# Altium footprint library PCB - POWER INDUCTORS - WURTH WE-HCI 7030.PcbLib: 1 footprints
Each footprint in its own frame and in the unit in brackets; x right, y up, seen from the top. Pads: shape width x height; smd on the part's side, far side on the other; paste and mask are expansions set on the pad; w line width, h text height; cw(c..) or ccw(c..) is an arc to the next point about the centre after c.
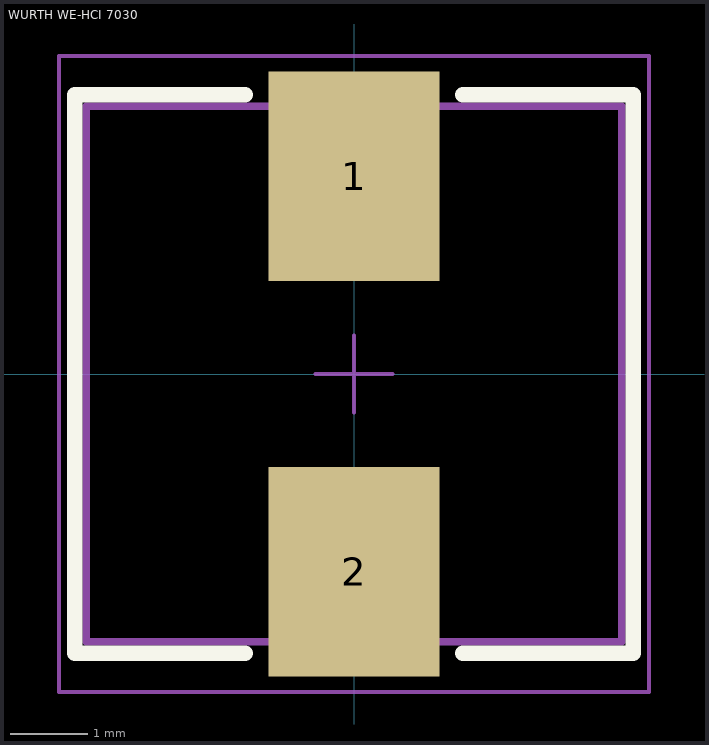
[diagram p0: the footprint, top view; thin cyan lines are the x and y axes]

## WURTH WE-HCI 7030 [mm] "SMT Flat Wire High Current Inductor, body 6.9x6.9mm"
height 3
pads (2):
  rect 2.2x2.7 smd: 1(0,2.55) 2(0,-2.55)
Top Overlay:
  lines w0.2: -1.4,-3.6 -3.6,-3.6 -3.6,3.6 -1.4,3.6 ; 1.4,-3.6 3.6,-3.6 3.6,3.6 1.4,3.6
Top Assembly:
  lines w0.1: -3.45,-3.45 3.45,-3.45 3.45,3.45 -3.45,3.45 -3.45,-3.45
Top Component Outline:
  lines w0.1: -3.45,-3.45 3.45,-3.45 3.45,3.45 -3.45,3.45 -3.45,-3.45
Top Courtyard:
  lines w0.05: -0.5,0 0.5,0 ; 0,-0.5 0,0.5 ; -3.8,-4.1 3.8,-4.1 3.8,4.1 -3.8,4.1 -3.8,-4.1
3D body "744310xxx.stp": height 3, standoff 0, extent -3.45,-3.5 3.45,3.5